# EAGLE library part TMP101 (library tmp10x)
Digital Temperature sensor from Texas Instruments Digital output : I2C Resolution : 9 to 12bit Accuracy : 2'C from -25'C to 85'C ; 3'C from -55'C to 125'C Supply : 2,7 to 5,5V / 45uA (standby 0,1uA) Alert output
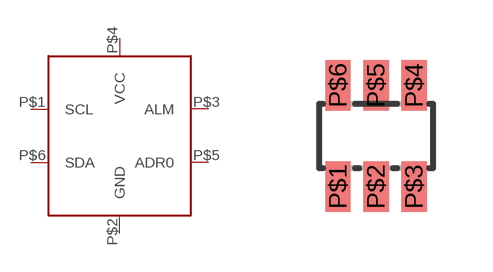
[diagram p0: symbol with the pads of SOT23-6; footprint SOT23-6]

Designator prefix U

## TMP101  [SOT23-6]
P$1  SCL
P$2  GND  pwr
P$3  ALM
P$4  VCC  pwr
P$5  ADR0
P$6  SDA

## Footprint SOT23-6 (pad centres in mm)
Small Outline Transistor
smd 0.635 x 1.27: P$1 -0.953,-1.27; P$2 0,-1.27; P$3 0.953,-1.27; P$4 0.953,1.27; P$5 0,1.27; P$6 -0.953,1.27